# Altium schematic symbol library SCH - POWER - SWITCHMODE - TI TPS61240-Q1DRV.SchLib: 1 symbol
Pins are listed as number, name and electrical type; pins without a type are passive.

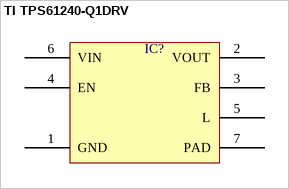
[diagram p0: symbol TI TPS61240-Q1DRV]

## TI TPS61240-Q1DRV
designator IC?  (value not drawn)
pins: 1 GND, 2 VOUT, 3 FB, 4 EN, 5 L, 6 VIN, 7 PAD